# EAGLE library part 62402021722 (library WR-WTB)
WR-WTB 2.00 mm Male Dual Row Horizontal Shrouded Header w. positive locking Material Properties Insulator Material PBT Insulator Flammability Rating UL94 V-0 Color White Contact Material Copper Alloy Contact Plating Tin Contact Type Stamped Certification UL Approval E323964 General Information Operating Temperature -25 °C up to +85 °C Compliance RoHS IR 3 A Working Voltage 250 V (AC) Withstanding Voltage 1000 V (AC) Contact Resistance 20 mΩ RISO 1000 MΩ Pitch 2 mm Gender Male Type Horizontal Packaging Properties Packaging Tube <https://www.we-online.com/components/media/o33359v209%20Family_WR-WTB_6240xx21722.jpg> Details see: www.we-online.com/en/components/products/WTB_2_00_MALE_DUAL_ROW_HORIZONTAL_SHROUDED_HEADER_W_POSITIVE_LOCKING_6240XX21722 <www.we-online.com/catalog/WTB_2_00_MALE_DUAL_ROW_HORIZONTAL_SHROUDED_HEADER_W_POSITIVE_LOCKING_6240XX21722/?utm_source=eagle_model&utm_medium=description_link&utm_campaign=eisos_eagle> Updated by Ella 2025-03-06 2025 (C) Würth Elektronik
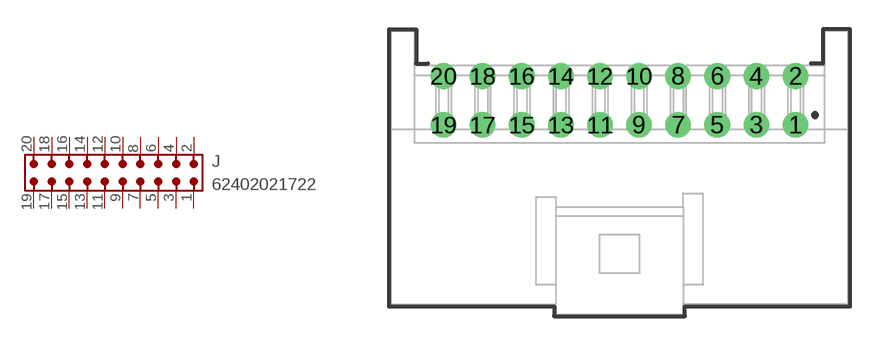
[diagram p100: symbol with the pads of 62402021722; footprint 62402021722]

Designator prefix J

## 62402021722 (CONTACT-RESISTANCE: 20mOhm; DATASHEET-URL: https://www.we-online.com/redexpert/spec/62402021722?ae; GENDER: Male; IR: 3A; L: 23.4mm; MOUNT: THT; PACKAGING: Tube; PART-NUMBER: 62402021722; PCB-CABLE-PANEL: PCB; PINS: 20; PITCH: 2mm; TYPE: Horizontal; VALUE: 62402021722; WORKING-VOLTAGE: 250V(AC))  [62402021722]
1  1  pas
2  2  pas
3  3  pas
4  4  pas
5  5  pas
6  6  pas
7  7  pas
8  8  pas
9  9  pas
10  10  pas
11  11  pas
12  12  pas
13  13  pas
14  14  pas
15  15  pas
16  16  pas
17  17  pas
18  18  pas
19  19  pas
20  20  pas

## Footprint 62402021722 (pad centres in mm)
WR-WTB 2.00 mm Male Dual Row Horizontal Shrouded Header w. positive locking, 20 pins
drill 0.8: 1 9,2.2; 2 9,4.7; 3 7,2.2; 4 7,4.7; 5 5,2.2; 6 5,4.7; 7 3,2.2; 8 3,4.7; 9 1,2.2; 10 1,4.7; 11 -1,2.2; 12 -1,4.7; 13 -3,2.2; 14 -3,4.7; 15 -5,2.2; 16 -5,4.7; 17 -7,2.2; 18 -7,4.7; 19 -9,2.2; 20 -9,4.7